# EAGLE library part BMM350 (library 2026-01-09_07-21-43_Library)
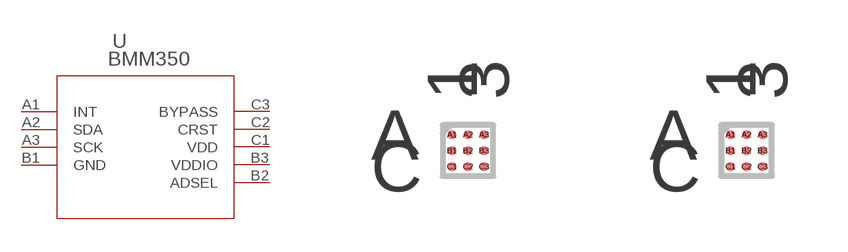
[diagram p0: symbol with the pads of BGA9_BMM350_BOS; footprints BGA9_BMM350_BOS, BGA9_BMM350_BOS-M]

Designator prefix U

## BMM350BGA9_BMM350_BOS (Copyright: Copyright (C) 2026 Ultra Librarian. All rights reserved.; Manufacturer_Name: Bosch Sensortec; Manufacturer_Part_Number: BMM350; Type: Magnetic Sensors)  [BGA9_BMM350_BOS]
A1  INT  in
A2  SDA  pas
A3  SCK  pas
B1  GND  pas
B2  ADSEL  pas
B3  VDDIO  pwr
C1  VDD  pwr
C2  CRST  pas
C3  BYPASS  pas

## BMM350BGA9_BMM350_BOS-M (Copyright: Copyright (C) 2026 Ultra Librarian. All rights reserved.; Manufacturer_Name: Bosch Sensortec; Manufacturer_Part_Number: BMM350; Type: Magnetic Sensors)  [BGA9_BMM350_BOS-M]
Pads as for BGA9_BMM350_BOS

## BMM350BGA9_BMM350_BOS-L (Copyright: Copyright (C) 2026 Ultra Librarian. All rights reserved.; Manufacturer_Name: Bosch Sensortec; Manufacturer_Part_Number: BMM350; Type: Magnetic Sensors)  [BGA9_BMM350_BOS-L]
Pads as for BGA9_BMM350_BOS

## Footprint BGA9_BMM350_BOS (pad centres in mm)
smd 0.229 x 0.229: A1 -0.4,0.4; A2 0,0.4; A3 0.4,0.4; B1 -0.4,0; B2 0,0; B3 0.4,0; C1 -0.4,-0.4; C2 0,-0.4; C3 0.4,-0.4

## Footprint BGA9_BMM350_BOS-M (pad centres in mm)
smd 0.229 x 0.229: A1 -0.4,0.4; A2 0,0.4; A3 0.4,0.4; B1 -0.4,0; B2 0,0; B3 0.4,0; C1 -0.4,-0.4; C2 0,-0.4; C3 0.4,-0.4

## Footprint BGA9_BMM350_BOS-L (pad centres in mm)
smd 0.203 x 0.203: A1 -0.4,0.4; A2 0,0.4; A3 0.4,0.4; B1 -0.4,0; B2 0,0; B3 0.4,0; C1 -0.4,-0.4; C2 0,-0.4; C3 0.4,-0.4